# EAGLE library part FT232R-BREAKOUT (library PocketCube)
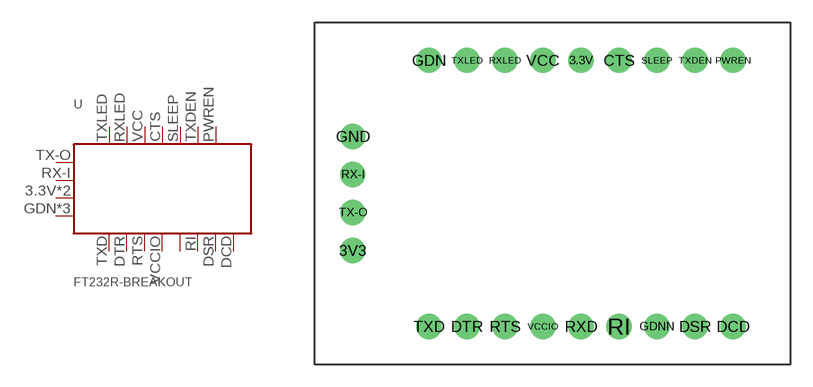
[diagram p8: symbol with the pads of FT232R-BREAKOUT; footprint FT232R-BREAKOUT]

Designator prefix -

## FT232R-BREAKOUT  [FT232R-BREAKOUT]
3.3V  3V3
3V3  3V3
CTS  CTS
DCD  DCD
DSR  DSR
DTR  DTR
GDN  GDN
GDNN  GDN
GND  GDN
PWREN  PWREN
RI  RI
RTS  RTS
RX-I  RX
RXD  RXD
RXLED  RXLED
SLEEP  SLEEP
TX-O  TX
TXD  TXD
TXDEN  TXDEN
TXLED  TXLED
VCC  VCC
VCCIO  VCCIO

## Footprint FT232R-BREAKOUT (pad centres in mm)
drill 1 pad 1.676: 3.3V 17.78,20.32; 3V3 2.54,7.62; CTS 20.32,20.32; DCD 27.94,2.54; DSR 25.4,2.54; DTR 10.16,2.54; GDN 7.62,20.32; GDNN 22.86,2.54; GND 2.54,15.24; PWREN 27.94,20.32; RI 20.32,2.54; RTS 12.7,2.54; RX-I 2.54,12.7; RXD 17.78,2.54; RXLED 12.7,20.32; SLEEP 22.86,20.32; TX-O 2.54,10.16; TXD 7.62,2.54; TXDEN 25.4,20.32; TXLED 10.16,20.32; VCC 15.24,20.32; VCCIO 15.24,2.54